# Altium integrated library EEUFS1J270B.IntLib: 1 symbol
Pins are listed as number, name and electrical type; pins without a type are passive.

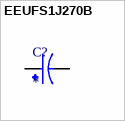
[diagram p0: symbol EEUFS1J270B]

## EEUFS1J270B
designator C?
CAP ALUM 27UF 20% 63V THRU HOLE; MP: EEU-FS1J270B; MF: Panasonic Electronic Components; Package: RADIAL-2 Panasonic; Availability: In Stock; SnapEDA_Link: https://www.snapeda.com/parts/EEU-FS1J270B/Panasonic%20Electronic%20Components/view-part/3211392/?ref=snap; Price: None; Check_prices: https://www.snapeda.com/parts/EEU-FS1J270B/Panasonic%20Electronic%20Components/view-part/3211392/?ref=eda; Value: *
footprint CAPPRD500W50D500H1100
pins: N, P